# EAGLE library part CON-SUBD_M09?S (library ネオぴゅう太_ReplaceLibParts)
SUB-D
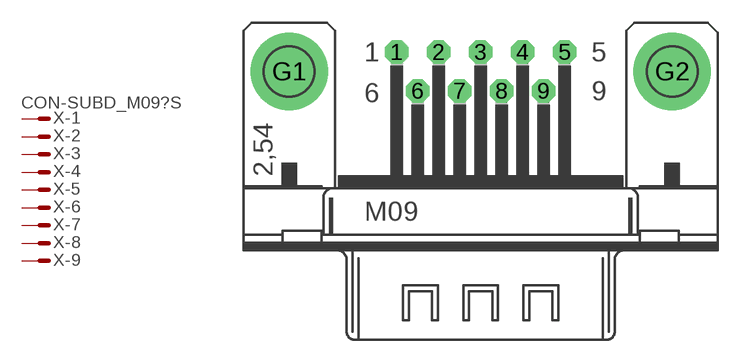
[diagram p12: symbol with the pads of CON-SUBD_M09HP; footprint CON-SUBD_M09HP]

Designator prefix X; gates -1=CON-SUBD_MV:1 -2=CON-SUBD_M:1 -3=CON-SUBD_M:1 -4=CON-SUBD_M:1 -5=CON-SUBD_M:1 -6=CON-SUBD_M:1 -7=CON-SUBD_M:1 -8=CON-SUBD_M:1 -9=CON-SUBD_M:1

## CON-SUBD_M09HPS (OC_FARNELL: unknown; OC_NEWARK: unknown)  [CON-SUBD_M09HP]
1  -1:M  pas
2  -2:M  pas
3  -3:M  pas
4  -4:M  pas
5  -5:M  pas
6  -6:M  pas
7  -7:M  pas
8  -8:M  pas
9  -9:M  pas

## Footprint CON-SUBD_M09HP (pad centres in mm)
SUB-D
drill 1.016 octagon: 1 -5.486,1.27; 2 -2.743,1.27; 3 0,1.27; 4 2.743,1.27; 5 5.486,1.27; 6 -4.115,-1.27; 7 -1.372,-1.27; 8 1.372,-1.27; 9 4.115,-1.27
drill 3.302 pad 5.08: G1 -12.522,0; G2 12.522,0